# EAGLE library part EXK-MU-005-11-B (library con-usb-jlb)
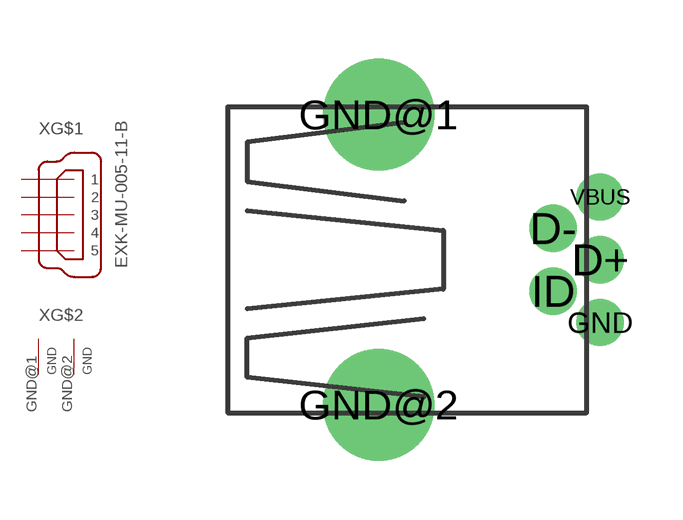
[diagram p0: symbol with the pads of MINI-USB; footprint MINI-USB]

Designator prefix X; gates G$1=MINI-USB G$2=GND

## EXK-MU-005-11-B  [MINI-USB]
D+  G$1:3  in
D-  G$1:2  in
GND  G$1:5  in
GND@1  G$2:GND  pwr
GND@2  G$2:GND  pwr
ID  G$1:4  in
VBUS  G$1:1  in

## Footprint MINI-USB (pad centres in mm)
drill 0.7 round: D+ 4.381,0; D- 3.181,0.8; GND 4.381,-1.6; ID 3.181,-0.8; VBUS 4.381,1.6
drill 1.9 round: GND@1 -1.269,3.7; GND@2 -1.269,-3.7